# EAGLE library part TP-1X6 (library pad)
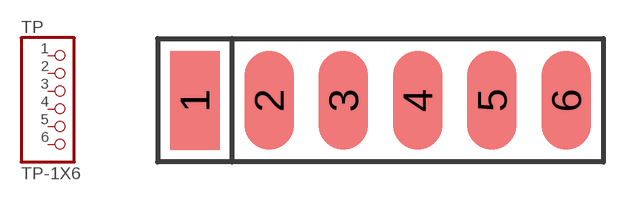
[diagram p1: symbol with the pads of 1X06; footprint 1X06]

Designator prefix TP

## TP-1X6  [1X06]
1  1  pas
2  2  pas
3  3  pas
4  4  pas
5  5  pas
6  6  pas

## Footprint 1X06 (pad centres in mm)
smd 2 x 4: 1 -7.5,0; 2 -4.5,0; 3 -1.5,0; 4 1.5,0; 5 4.5,0; 6 7.5,0